# Altium schematic symbol library diplom.SchLib: 16 symbols
Pins are listed as number, name and electrical type; pins without a type are passive.

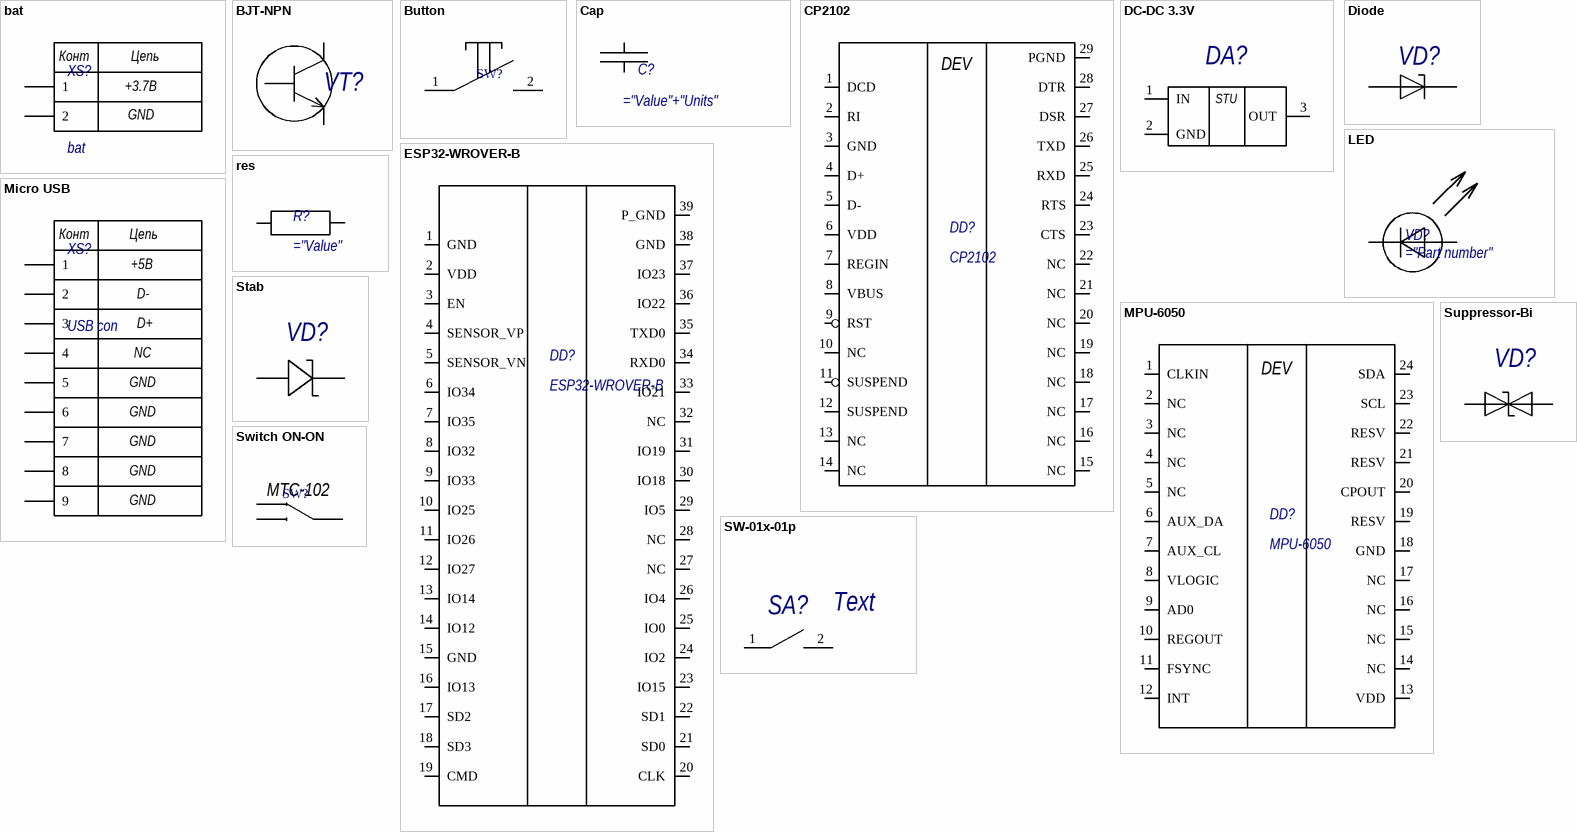
[diagram p0: symbols bat to Switch ON-ON]

## bat
designator XS?
pins: G 2, I 1
text: Конт; Цепь; +3.7В; GND

## BJT-NPN
designator VT?
Type: Транзистор; Published: 07.05.2013; Publisher: Andrew Danich
pins: 1 Б "База", 2 К "Коллектор", 3 Э "Эмиттер"

## Button
designator SW?
pins: 1, 2 1

## Cap
designator C?
signal-integrity model Cap
pins: 1, 2

## CP2102
designator DD?
pins: 1 DCD, 2 RI, 3 GND, 4 D+, 5 D-, 6 VDD, 7 REGIN, 8 VBUS, 9 RST, 10 NC, 11 SUSPEND, 12 SUSPEND, 13 NC, 14 NC, 15 NC, 16 NC, 17 NC, 18 NC, 19 NC, 20 NC, 21 NC, 22 NC, 23 CTS, 24 RTS, 25 RXD, 26 TXD, 27 DSR, 28 DTR, 29 PGND
text: DEV

## DC-DC 3.3V
designator DA?, comment AP2138N  (value not drawn)
Published: 13.08.2015; Publisher: Andrew Danich; Type: Микросхема
pins: 1 IN, 2 GND, 3 OUT
text: STU

## Diode
designator VD?
Type: Диод; Published: 18.05.2010; Publisher: Andrew Danich
pins: 1 А "Анод", 2 К "Катод"

## ESP32-WROVER-B
designator DD?
pins: 1 GND, 2 VDD, 3 EN, 4 SENSOR_VP, 5 SENSOR_VN, 6 IO34, 7 IO35, 8 IO32, 9 IO33, 10 IO25, 11 IO26, 12 IO27, 13 IO14, 14 IO12, 15 GND, 16 IO13, 17 SD2, 18 SD3, 19 CMD, 20 CLK, 21 SD0, 22 SD1, 23 IO15, 24 IO2, 25 IO0, 26 IO4, 27 NC, 28 NC, 29 IO5, 30 IO18, 31 IO19, 32 NC, 33 IO21, 34 RXD0, 35 TXD0, 36 IO22, 37 IO23, 38 GND, 39 P_GND

## LED
designator VD?
pins: 1 A, 2 C
1 alternate drawing of the same symbol

## Micro USB
designator XS?, comment USB con
pins: 1, 2, 3, 4, 5, 6, 6 7, 6 8, 6 9
text: Конт; Цепь; +5В; D-; D+; NC; GND

## MPU-6050
designator DD?
pins: 1 CLKIN, 2 NC, 3 NC, 4 NC, 5 NC, 6 AUX_DA, 7 AUX_CL, 8 VLOGIC, 9 AD0, 10 REGOUT, 11 FSYNC, 12 INT, 13 VDD, 14 NC, 15 NC, 16 NC, 17 NC, 18 GND, 19 RESV, 20 CPOUT, 21 RESV, 22 RESV, 23 SCL, 24 SDA
text: DEV

## res
designator R?
signal-integrity model Res
pins: 1, 2

## Stab
designator VD?
Type: Диод; Published: 18.05.2010; Publisher: Andrew Danich
pins: 1 А "Анод", 2 К "Катод"

## Suppressor-Bi
designator VD?
Type: Супрессор; Published: 27.07.2015; Publisher: Andrew Danich
pins: 1 А "Анод", 2 К "Катод"

## SW-01x-01p
designator SA?, comment Text
Published: 11.04.2014; Publisher: Andrew Danich; Type: Переключатель
pins: 1 A1, 2 B1

## Switch ON-ON
designator SW?  PartNumber: MTC-102
Switch, ON-ON; Manufacturer: Jietong Switch; Package: MTC-102-A3
footprint BUT: MTS-102
footprint BUT: OS102011MA1QN1
footprint BUT: Limit switch mini
pins: 1 PIN1, 2 PIN0, 3 PIN1